# Altium schematic symbol library CUBIC_SCH.SchLib: 153 symbols (part 7 of 7)
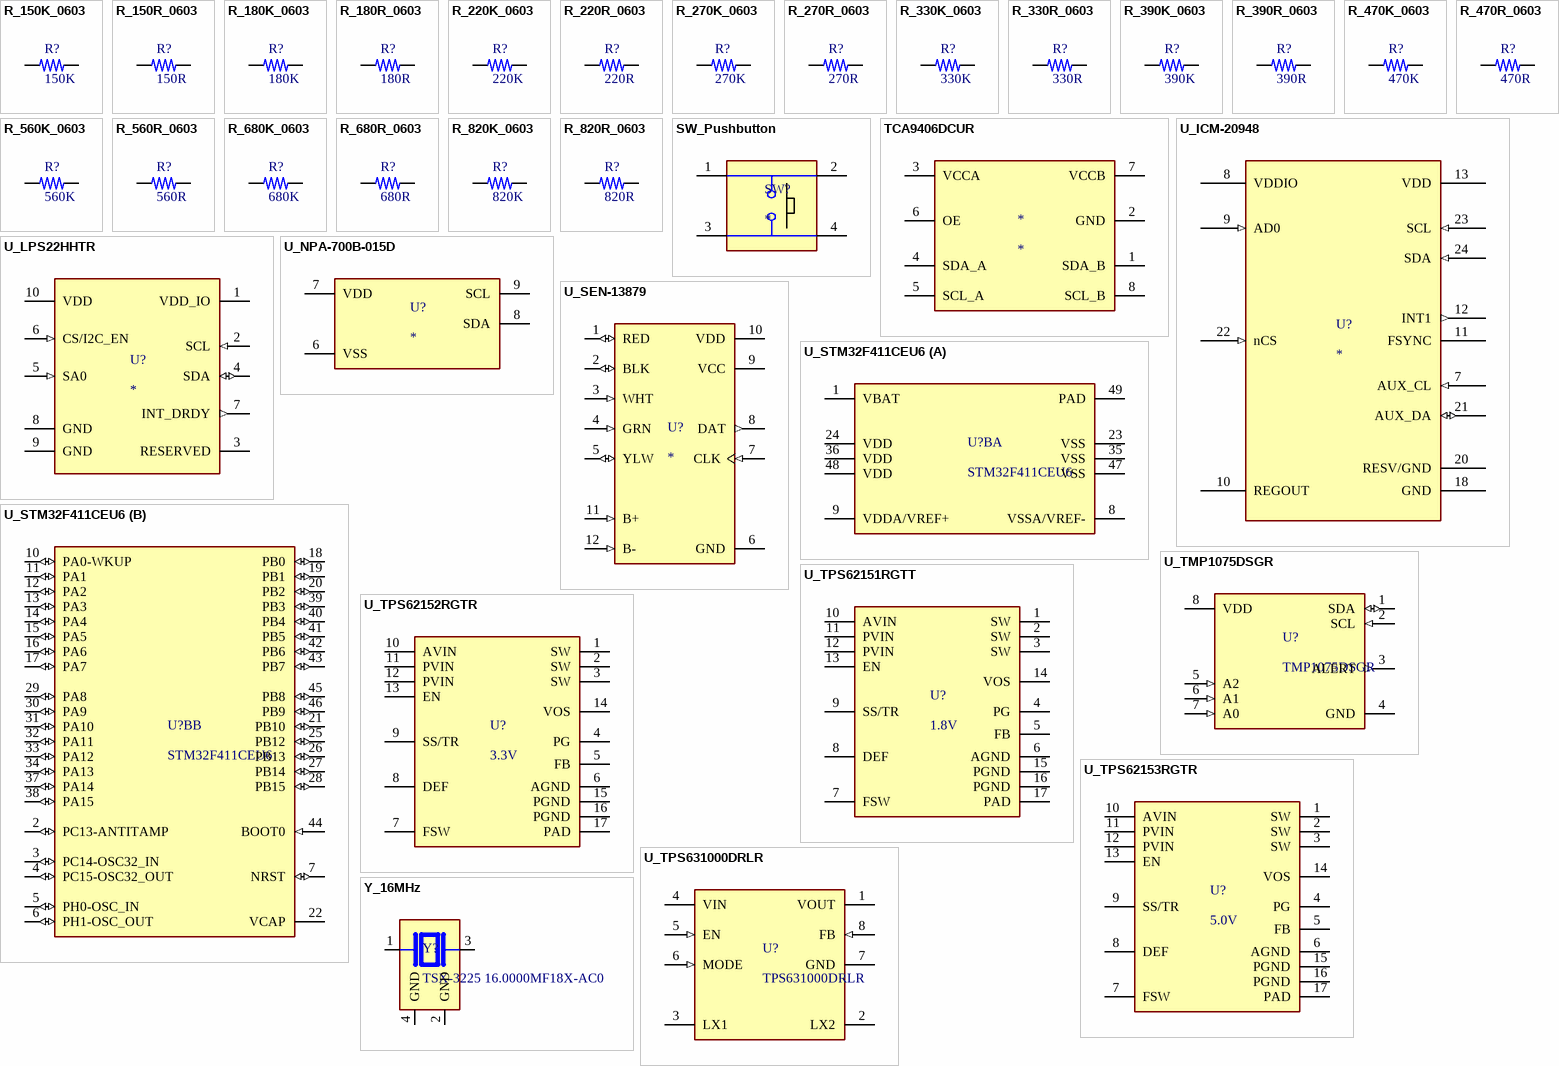
[diagram p9: symbols R_150K_0603 to Y_16MHz]

## R_470R_0603
designator R?, comment 470R
Fixed Resistor, Metal Glaze/thick Film, 0.1W, 470ohm, 75V, 1% +/-Tol, 100ppm/Cel, Surface Mount, 0603; Manufacturer: Yageo; Manufacturer Part Number: RC0603FR-07470RL; Additional Feature: LASER TRIMMABLE; Power: 100mW; Rated Temperature: 70°C; Temperature Coefficient: 100ppm/°C; Package Height: 0.45mm; Package Length: 1.6mm; Package Width: 0.8mm; Supplier: Digikey; Supplier Part Number: 311-470HRCT-ND; RoHS: Yes; Category: Chip SMD Resistors; Stock: 287694; Pricing: 1=0.1, 10=0.011, 50=0.0086, 100=0.0061, 500=0.00562, 1000=0.0051 (USD); Mounting Technology: Surface Mount; Pins: 2; Package Shape: Rectangular; Case/Package: 0603; Terminal Finish: Nickel; Min Operating Temperature: -55°C; Max Operating Temperature: 155°C; Tolerance: 1%; JESD-609 Code: e3; Resistor Type: FIXED RESISTOR; Construction: Chip; Packaging: Tape and Reel; Value: 470R; Technology: METAL GLAZE/THICK FILM; Termination: Wraparound; Working Voltage: 75V; Reach SVHC Compliant: Yes; RoHS Compliant: Yes; ComponentLink1URL: https://datasheet.ciiva.com:443/pdfs/VipMasterIC/IC/YAGO/YAGO-S-A0008145938/YAGO-S-A0008145938-1.pdf?src-supplier=IHS+Markit; ComponentLink1Description: https://datasheet.ciiva.com:443/pdfs/VipMasterIC/IC/YAGO/YAGO-S-A0008145938/YAGO-S-A0008145938-1.pdf?src-supplier=IHS+Markit; ComponentLink2URL: https://datasheet.ciiva.com/11808/0900766b80f96399-11808177.pdf?src-supplier=Rs; ComponentLink2Description: https://datasheet.ciiva.com/11808/0900766b80f96399-11808177.pdf?src-supplier=Rs; ComponentLink3URL: https://datasheet.ciiva.com/46440/1868787-46440907.pdf?src-supplier=Element14; ComponentLink3Description: https://datasheet.ciiva.com/46440/1868787-46440907.pdf?src-supplier=Element14; ComponentLink4URL: https://datasheet.ciiva.com/7660/1868787-7660793.pdf?src-supplier=Element14; ComponentLink4Description: https://datasheet.ciiva.com/7660/1868787-7660793.pdf?src-supplier=Element14; ComponentLink5URL: https://datasheet.ciiva.com/7746/1738695-7746359.pdf?src-supplier=Element14; ComponentLink5Description: https://datasheet.ciiva.com/7746/1738695-7746359.pdf?src-supplier=Element14; ComponentLink6URL: https://datasheet.ciiva.com/2454/pyu-r-int-thick-7-2454012.pdf?src-supplier=Digikey; ComponentLink6Description: https://datasheet.ciiva.com/2454/pyu-r-int-thick-7-2454012.pdf?src-supplier=Digikey; ComponentLink7URL: https://datasheet.ciiva.com/2454/pyu-r-int-thick-7-2454013.pdf?src-supplier=Digikey; ComponentLink7Description: https://datasheet.ciiva.com/2454/pyu-r-int-thick-7-2454013.pdf?src-supplier=Digikey; ComponentLink8URL: https://datasheet.ciiva.com/2454/pyu-r-int-thick-7-2454014.pdf?src-supplier=Digikey; ComponentLink8Description: https://datasheet.ciiva.com/2454/pyu-r-int-thick-7-2454014.pdf?src-supplier=Digikey; ComponentLink9URL: https://datasheet.ciiva.com/7746/1738695-7746360.pdf?src-supplier=Element14; ComponentLink9Description: https://datasheet.ciiva.com/7746/1738695-7746360.pdf?src-supplier=Element14
footprint R_0603
pins: 1, 2

## R_560K_0603
designator R?, comment 560K
Fixed Resistor, Metal Glaze/thick Film, 0.1W, 560000ohm, 75V, 1% +/-Tol, 100ppm/Cel, Surface Mount, 0603; Manufacturer: Yageo; Manufacturer Part Number: RC0603FR-07560KL; Additional Feature: LASER TRIMMABLE; Power: 100mW; Rated Temperature: 70°C; Value: 560kR; Temperature Coefficient: 100ppm/°C; Package Height: 0.45mm; Package Length: 1.6mm; Package Width: 0.8mm; Supplier: Digikey; Supplier Part Number: 311-560KHRCT-ND; RoHS: Yes; Category: Chip SMD Resistors; Stock: 175732; Pricing: 1=0.1, 10=0.012, 50=0.0096, 100=0.0071, 500=0.00612, 1000=0.0051 (USD); Mounting Technology: Surface Mount; Pins: 2; Package Shape: Rectangular; Case/Package: 0603; Terminal Finish: Nickel; Min Operating Temperature: -55°C; Max Operating Temperature: 155°C; Tolerance: 1%; JESD-609 Code: e3; Resistor Type: FIXED RESISTOR; Construction: Chip; Packaging: Tape and Reel; Technology: METAL GLAZE/THICK FILM; Termination: Wraparound; Working Voltage: 75V; Reach SVHC Compliant: Yes; RoHS Compliant: Yes; ComponentLink1URL: https://datasheet.ciiva.com:443/pdfs/VipMasterIC/IC/YAGO/YAGO-S-A0008145938/YAGO-S-A0008145938-1.pdf?src-supplier=IHS+Markit; ComponentLink1Description: https://datasheet.ciiva.com:443/pdfs/VipMasterIC/IC/YAGO/YAGO-S-A0008145938/YAGO-S-A0008145938-1.pdf?src-supplier=IHS+Markit; ComponentLink2URL: https://datasheet.ciiva.com/7746/443971-7746373.pdf?src-supplier=Element14; ComponentLink2Description: https://datasheet.ciiva.com/7746/443971-7746373.pdf?src-supplier=Element14
footprint R_0603
pins: 1, 2

## R_560R_0603
designator R?, comment 560R
Fixed Resistor, Metal Glaze/thick Film, 0.1W, 560ohm, 75V, 1% +/-Tol, 100ppm/Cel, Surface Mount, 0603; Manufacturer: Yageo; Manufacturer Part Number: RC0603FR-07560RL; Additional Feature: LASER TRIMMABLE; Power: 100mW; Rated Temperature: 70°C; Temperature Coefficient: 100ppm/°C; Package Height: 0.45mm; Package Length: 1.6mm; Package Width: 0.8mm; Supplier: Digikey; Supplier Part Number: 311-560HRCT-ND; RoHS: Yes; Category: Chip SMD Resistors; Stock: 555492; Pricing: 1=0.1, 10=0.012, 50=0.0096, 100=0.0071, 500=0.00612, 1000=0.0051 (USD); Mounting Technology: Surface Mount; Pins: 2; Package Shape: Rectangular; Case/Package: 0603; Terminal Finish: Nickel; Min Operating Temperature: -55°C; Max Operating Temperature: 155°C; Tolerance: 1%; JESD-609 Code: e3; Resistor Type: FIXED RESISTOR; Construction: Chip; Packaging: Tape and Reel; Value: 560R; Technology: METAL GLAZE/THICK FILM; Termination: Wraparound; Working Voltage: 75V; Reach SVHC Compliant: Yes; RoHS Compliant: Yes; ComponentLink1URL: https://datasheet.ciiva.com:443/pdfs/VipMasterIC/IC/YAGO/YAGO-S-A0008145938/YAGO-S-A0008145938-1.pdf?src-supplier=IHS+Markit; ComponentLink1Description: https://datasheet.ciiva.com:443/pdfs/VipMasterIC/IC/YAGO/YAGO-S-A0008145938/YAGO-S-A0008145938-1.pdf?src-supplier=IHS+Markit; ComponentLink2URL: https://datasheet.ciiva.com/11808/0900766b80f96399-11808127.pdf?src-supplier=Rs; ComponentLink2Description: https://datasheet.ciiva.com/11808/0900766b80f96399-11808127.pdf?src-supplier=Rs; ComponentLink3URL: https://datasheet.ciiva.com/2454/pyu-r-int-thick-7-2454381.pdf?src-supplier=Digikey; ComponentLink3Description: https://datasheet.ciiva.com/2454/pyu-r-int-thick-7-2454381.pdf?src-supplier=Digikey; ComponentLink4URL: https://datasheet.ciiva.com/2454/pyu-r-int-thick-7-2454382.pdf?src-supplier=Digikey; ComponentLink4Description: https://datasheet.ciiva.com/2454/pyu-r-int-thick-7-2454382.pdf?src-supplier=Digikey; ComponentLink5URL: https://datasheet.ciiva.com/2454/pyu-r-int-thick-7-2454383.pdf?src-supplier=Digikey; ComponentLink5Description: https://datasheet.ciiva.com/2454/pyu-r-int-thick-7-2454383.pdf?src-supplier=Digikey; ComponentLink6URL: https://datasheet.ciiva.com/46412/443971-46412853.pdf?src-supplier=Element14; ComponentLink6Description: https://datasheet.ciiva.com/46412/443971-46412853.pdf?src-supplier=Element14; ComponentLink7URL: https://datasheet.ciiva.com/7746/443971-7746374.pdf?src-supplier=Element14; ComponentLink7Description: https://datasheet.ciiva.com/7746/443971-7746374.pdf?src-supplier=Element14; ComponentLink8URL: https://datasheet.ciiva.com/7746/443971-7746375.pdf?src-supplier=Element14; ComponentLink8Description: https://datasheet.ciiva.com/7746/443971-7746375.pdf?src-supplier=Element14
footprint R_0603
pins: 1, 2

## R_680K_0603
designator R?, comment 680K
Fixed Resistor, Metal Glaze/thick Film, 0.1W, 680000ohm, 75V, 1% +/-Tol, 100ppm/Cel, Surface Mount, 0603; Manufacturer: Yageo; Manufacturer Part Number: RC0603FR-07680KL; Additional Feature: LASER TRIMMABLE; Power: 100mW; Rated Temperature: 70°C; Value: 680kR; Temperature Coefficient: 100ppm/°C; Package Height: 0.45mm; Package Length: 1.6mm; Package Width: 0.8mm; Supplier: Digikey; Supplier Part Number: 311-680KHRCT-ND; RoHS: Yes; Category: Chip SMD Resistors; Stock: 125480; Pricing: 1=0.1, 10=0.012, 50=0.0096, 100=0.0071, 500=0.00612, 1000=0.0051 (USD); Mounting Technology: Surface Mount; Pins: 2; Package Shape: Rectangular; Case/Package: 0603; Terminal Finish: Nickel; Min Operating Temperature: -55°C; Max Operating Temperature: 155°C; Tolerance: 1%; JESD-609 Code: e3; Resistor Type: FIXED RESISTOR; Construction: Chip; Packaging: Tape and Reel; Technology: METAL GLAZE/THICK FILM; Termination: Wraparound; Working Voltage: 75V; Reach SVHC Compliant: Yes; RoHS Compliant: Yes; ComponentLink1URL: https://datasheet.ciiva.com:443/pdfs/VipMasterIC/IC/YAGO/YAGO-S-A0008145938/YAGO-S-A0008145938-1.pdf?src-supplier=IHS+Markit; ComponentLink1Description: https://datasheet.ciiva.com:443/pdfs/VipMasterIC/IC/YAGO/YAGO-S-A0008145938/YAGO-S-A0008145938-1.pdf?src-supplier=IHS+Markit; ComponentLink2URL: https://datasheet.ciiva.com/2519/pyu-r-int-thick-7-2519198.pdf?src-supplier=Digikey; ComponentLink2Description: https://datasheet.ciiva.com/2519/pyu-r-int-thick-7-2519198.pdf?src-supplier=Digikey; ComponentLink3URL: https://datasheet.ciiva.com/2519/pyu-r-int-thick-7-2519199.pdf?src-supplier=Digikey; ComponentLink3Description: https://datasheet.ciiva.com/2519/pyu-r-int-thick-7-2519199.pdf?src-supplier=Digikey; ComponentLink4URL: https://datasheet.ciiva.com/2519/pyu-r-int-thick-7-2519200.pdf?src-supplier=Digikey; ComponentLink4Description: https://datasheet.ciiva.com/2519/pyu-r-int-thick-7-2519200.pdf?src-supplier=Digikey; ComponentLink5URL: https://datasheet.ciiva.com/15189/getdatasheetpartid-323816-15189798.pdf?src-supplier=Verical; ComponentLink5Description: https://datasheet.ciiva.com/15189/getdatasheetpartid-323816-15189798.pdf?src-supplier=Verical; ComponentLink6URL: https://datasheet.ciiva.com/46440/1868787-46440911.pdf?src-supplier=Element14; ComponentLink6Description: https://datasheet.ciiva.com/46440/1868787-46440911.pdf?src-supplier=Element14
footprint R_0603
pins: 1, 2

## R_680R_0603
designator R?, comment 680R
Fixed Resistor, Metal Glaze/thick Film, 0.1W, 680ohm, 75V, 1% +/-Tol, 100ppm/Cel, Surface Mount, 0603; Manufacturer: Yageo; Manufacturer Part Number: RC0603FR-07680RL; Additional Feature: LASER TRIMMABLE; Power: 100mW; Rated Temperature: 70°C; Temperature Coefficient: 100ppm/°C; Package Height: 0.45mm; Package Length: 1.6mm; Package Width: 0.8mm; Supplier: Digikey; Supplier Part Number: 311-680HRCT-ND; RoHS: Yes; Category: Chip SMD Resistors; Stock: 165830; Pricing: 1=0.1, 10=0.012, 50=0.0096, 100=0.0071, 500=0.00612, 1000=0.0051, 5000=0.00408, 10000=0.00306, 15000=0.00221, 25000=0.00204, 35000=0.0019 (USD); Mounting Technology: Surface Mount; Pins: 2; Package Shape: Rectangular; Case/Package: 0603; Terminal Finish: Nickel; Min Operating Temperature: -55°C; Max Operating Temperature: 155°C; Tolerance: 1%; JESD-609 Code: e3; Resistor Type: FIXED RESISTOR; Construction: Chip; Packaging: Tape and Reel; Value: 680R; Technology: METAL GLAZE/THICK FILM; Termination: Wraparound; Working Voltage: 75V; Reach SVHC Compliant: Yes; RoHS Compliant: Yes; ComponentLink1URL: https://datasheet.ciiva.com:443/pdfs/VipMasterIC/IC/YAGO/YAGO-S-A0008145938/YAGO-S-A0008145938-1.pdf?src-supplier=IHS+Markit; ComponentLink1Description: https://datasheet.ciiva.com:443/pdfs/VipMasterIC/IC/YAGO/YAGO-S-A0008145938/YAGO-S-A0008145938-1.pdf?src-supplier=IHS+Markit; ComponentLink2URL: https://datasheet.ciiva.com/2553/pyu-r-int-thick-7-2553545.pdf?src-supplier=Digikey; ComponentLink2Description: https://datasheet.ciiva.com/2553/pyu-r-int-thick-7-2553545.pdf?src-supplier=Digikey; ComponentLink3URL: https://datasheet.ciiva.com/2553/pyu-r-int-thick-7-2553546.pdf?src-supplier=Digikey; ComponentLink3Description: https://datasheet.ciiva.com/2553/pyu-r-int-thick-7-2553546.pdf?src-supplier=Digikey; ComponentLink4URL: https://datasheet.ciiva.com/2553/pyu-r-int-thick-7-2553547.pdf?src-supplier=Digikey; ComponentLink4Description: https://datasheet.ciiva.com/2553/pyu-r-int-thick-7-2553547.pdf?src-supplier=Digikey; ComponentLink5URL: https://datasheet.ciiva.com/46412/443971-46412854.pdf?src-supplier=Element14; ComponentLink5Description: https://datasheet.ciiva.com/46412/443971-46412854.pdf?src-supplier=Element14; ComponentLink6URL: https://datasheet.ciiva.com/7746/443971-7746389.pdf?src-supplier=Element14; ComponentLink6Description: https://datasheet.ciiva.com/7746/443971-7746389.pdf?src-supplier=Element14
footprint R_0603
pins: 1, 2

## R_820K_0603
designator R?, comment 820K
Fixed Resistor, Metal Glaze/thick Film, 0.1W, 820000ohm, 75V, 1% +/-Tol, 100ppm/Cel, Surface Mount, 0603; Manufacturer: Yageo; Manufacturer Part Number: RC0603FR-07820KL; Additional Feature: LASER TRIMMABLE; Power: 100mW; Rated Temperature: 70°C; Value: 820kR; Temperature Coefficient: 100ppm/°C; Package Height: 0.45mm; Package Length: 1.6mm; Package Width: 0.8mm; Supplier: Digikey; Supplier Part Number: 311-820KHRCT-ND; RoHS: Yes; Category: Chip SMD Resistors; Stock: 104746; Pricing: 1=0.1, 10=0.012, 50=0.0096, 100=0.0071, 500=0.00612, 1000=0.0051 (USD); Mounting Technology: Surface Mount; Pins: 2; Package Shape: Rectangular; Case/Package: 0603; Terminal Finish: Nickel; Min Operating Temperature: -55°C; Max Operating Temperature: 155°C; Tolerance: 1%; JESD-609 Code: e3; Resistor Type: FIXED RESISTOR; Construction: Chip; Packaging: Tape and Reel; Technology: METAL GLAZE/THICK FILM; Termination: Wraparound; Working Voltage: 75V; Reach SVHC Compliant: Yes; RoHS Compliant: Yes; ComponentLink1URL: https://datasheet.ciiva.com:443/pdfs/VipMasterIC/IC/YAGO/YAGO-S-A0008145938/YAGO-S-A0008145938-1.pdf?src-supplier=IHS+Markit; ComponentLink1Description: https://datasheet.ciiva.com:443/pdfs/VipMasterIC/IC/YAGO/YAGO-S-A0008145938/YAGO-S-A0008145938-1.pdf?src-supplier=IHS+Markit; ComponentLink2URL: http://www.farnell.com/datasheets/1868787.pdf?src-supplier=Farnell; ComponentLink2Description: http://www.farnell.com/datasheets/1868787.pdf?src-supplier=Farnell; ComponentLink3URL: http://www.mouser.com/ds/2/447/RC0603-272842.pdf?src-supplier=Mouser; ComponentLink3Description: http://www.mouser.com/ds/2/447/RC0603-272842.pdf?src-supplier=Mouser; ComponentLink4URL: http://www.farnell.com/datasheets/2167052.pdf?src-supplier=Element14; ComponentLink4Description: http://www.farnell.com/datasheets/2167052.pdf?src-supplier=Element14; ComponentLink5URL: http://www.farnell.com/datasheets/443971.pdf?src-supplier=Element14; ComponentLink5Description: http://www.farnell.com/datasheets/443971.pdf?src-supplier=Element14; ComponentLink6URL: http://www.farnell.com/datasheets/1868787.pdf?src-supplier=Element14; ComponentLink6Description: http://www.farnell.com/datasheets/1868787.pdf?src-supplier=Element14; ComponentLink7URL: http://www.farnell.com/datasheets/1868787.pdf?src-supplier=Newark; ComponentLink7Description: http://www.farnell.com/datasheets/1868787.pdf?src-supplier=Newark; ComponentLink8URL: https://datasheet.octopart.com/RC0603FR-07820KL-Yageo-datasheet-8328172.pdf?src-supplier=Newark; ComponentLink8Description: https://datasheet.octopart.com/RC0603FR-07820KL-Yageo-datasheet-8328172.pdf?src-supplier=Newark; ComponentLink9URL: http://www.farnell.com/datasheets/2167052.pdf?src-supplier=Newark; ComponentLink9Description: http://www.farnell.com/datasheets/2167052.pdf?src-supplier=Newark; ComponentLink10URL: http://www.yageo.com/documents/recent/PYu-RC_Group_51_RoHS_L_9.pdf?src-supplier=Digikey; ComponentLink10Description: http://www.yageo.com/documents/recent/PYu-RC_Group_51_RoHS_L_9.pdf?src-supplier=Digikey; ComponentLink11URL: https://datasheet.octopart.com/RC0603FR-07820KL-Yageo-datasheet-164759695.pdf?src-supplier=Future+Electronics; ComponentLink11Description: https://datasheet.octopart.com/RC0603FR-07820KL-Yageo-datasheet-164759695.pdf?src-supplier=Future+Electronics
footprint R_0603
pins: 1, 2

## R_820R_0603
designator R?, comment 820R
Fixed Resistor, Metal Glaze/thick Film, 0.1W, 820ohm, 75V, 1% +/-Tol, 100ppm/Cel, Surface Mount, 0603; Manufacturer: Yageo; Manufacturer Part Number: RC0603FR-07820RL; Additional Feature: LASER TRIMMABLE; Power: 100mW; Rated Temperature: 70°C; Temperature Coefficient: 100ppm/°C; Package Height: 0.45mm; Package Length: 1.6mm; Package Width: 0.8mm; Supplier: Digikey; Supplier Part Number: 311-820HRCT-ND; RoHS: Yes; Category: Chip SMD Resistors; Stock: 187659; Pricing: 1=0.1, 10=0.012, 50=0.0096, 100=0.0071, 500=0.00612, 1000=0.0051 (USD); Mounting Technology: Surface Mount; Pins: 2; Package Shape: Rectangular; Case/Package: 0603; Terminal Finish: Nickel; Min Operating Temperature: -55°C; Max Operating Temperature: 155°C; Tolerance: 1%; JESD-609 Code: e3; Resistor Type: FIXED RESISTOR; Construction: Chip; Packaging: Tape and Reel; Value: 820R; Technology: METAL GLAZE/THICK FILM; Termination: Wraparound; Working Voltage: 75V; Reach SVHC Compliant: Yes; RoHS Compliant: Yes; ComponentLink1URL: https://datasheet.ciiva.com:443/pdfs/VipMasterIC/IC/YAGO/YAGO-S-A0008145938/YAGO-S-A0008145938-1.pdf?src-supplier=IHS+Markit; ComponentLink1Description: https://datasheet.ciiva.com:443/pdfs/VipMasterIC/IC/YAGO/YAGO-S-A0008145938/YAGO-S-A0008145938-1.pdf?src-supplier=IHS+Markit; ComponentLink2URL: https://datasheet.ciiva.com/11809/0900766b80f96399-11809317.pdf?src-supplier=Rs; ComponentLink2Description: https://datasheet.ciiva.com/11809/0900766b80f96399-11809317.pdf?src-supplier=Rs
footprint R_0603
pins: 1, 2

## SW_Pushbutton
designator SW?
6 x 6 mm, 4.3~17 mm Actuator Height, 100~260 gf, Through Hole, SPST, Tactile Switch; Manufacturer: Same Sky; Manufacturer Part Number: TS02-66-70-BK-100-LCR-D; Supplier: Digikey; Supplier Part Number: 2223-TS02-66-70-BK-100-LCR-D-ND; RoHS: No; Stock: 1871; Pricing: 1=0.1, 10=0.093, 25=0.0872, 100=0.0788, 250=0.07328, 500=0.0692, 1000=0.06531, 3000=0.05961, 5000=0.0572 (USD)
footprint SW_Pushbutton (Tactile pushbutton switch, 4-pin, through-hole)
pins: 1, 2, 3, 4

## TCA9406DCUR
designator *
Interface Circuit, PDSO8; Manufacturer: Texas Instruments; Manufacturer Part Number: TCA9406DCUR; Package Body Material: Plastic; Channels: 1; Power Supplies: 1.8/3.3,2.5/5V; Supply Voltage1-Max: 5.5V; Supply Voltage1-Min: 2.3V; Supply Voltage1-Nom: 2.5V; Max Supply Voltage: 3.6V; Min Supply Voltage: 1.65V; Nominal Supply Voltage: 1.8V; Qualification Status: Not Qualified; Supplier: Digikey; Supplier Part Number: 296-28109-1-ND; RoHS: Yes; Category: Voltage Level Shifters; Stock: 10328; Pricing: 1=0.82, 10=0.586, 25=0.5272, 100=0.4627, 250=0.43188, 500=0.41334, 1000=0.39807 (USD); Case/Package: VSSOP; Pins: 8; Package Shape: Rectangular; Terminal Finish: Nickel; Min Operating Temperature: -40°C; Max Operating Temperature: 85°C; JESD-609 Code: e4; Interface IC Type: INTERFACE CIRCUIT; JESD-30 Code: R-PDSO-G8; Moisture Sensitivity Level: 1; Package Style: SMALL OUTLINE, VERY THIN PROFILE, SHRINK PITCHMeter; Peak Reflow Temperature (Cel): 260°C; Surface Mount: Yes; Terminal Form: Gull Wing; Terminal Position: DUAL; Length: 2.3mm; Width: 2mm; Height - Seated (Max): 0.9mm; Terminal Pitch: 0.5mm; Temperature Grade: INDUSTRIAL; Reach SVHC Compliant: Yes; RoHS Compliant: Yes; ComponentLink1URL: https://www.ti.com:443/lit/ds/symlink/tca9406.pdf?src-supplier=IHS+Markit; ComponentLink1Description: https://www.ti.com:443/lit/ds/symlink/tca9406.pdf?src-supplier=IHS+Markit; ComponentLink2URL: https://datasheet.ciiva.com/3149/tca9406-3149521.pdf?src-supplier=Avnet; ComponentLink2Description: https://datasheet.ciiva.com/3149/tca9406-3149521.pdf?src-supplier=Avnet; ComponentLink3URL: https://datasheet.ciiva.com/1899/tca9406-1899424.pdf?src-supplier=Digikey; ComponentLink3Description: https://datasheet.ciiva.com/1899/tca9406-1899424.pdf?src-supplier=Digikey; ComponentLink4URL: https://datasheet.ciiva.com/15134/getdatasheetpartid-312405-15134730.pdf?src-supplier=Verical; ComponentLink4Description: https://datasheet.ciiva.com/15134/getdatasheetpartid-312405-15134730.pdf?src-supplier=Verical; ComponentLink5URL: https://datasheet.ciiva.com/1899/tca9406-1899423.pdf?src-supplier=Digikey; ComponentLink5Description: https://datasheet.ciiva.com/1899/tca9406-1899423.pdf?src-supplier=Digikey; ComponentLink6URL: https://datasheet.ciiva.com/1899/tca9406-1899425.pdf?src-supplier=Digikey; ComponentLink6Description: https://datasheet.ciiva.com/1899/tca9406-1899425.pdf?src-supplier=Digikey; ComponentLink7URL: https://datasheet.ciiva.com/46391/1817453-46391351.pdf?src-supplier=Element14; ComponentLink7Description: https://datasheet.ciiva.com/46391/1817453-46391351.pdf?src-supplier=Element14; ComponentLink8URL: https://datasheet.ciiva.com/1503/1882429-1503921.pdf?src-supplier=Element14; ComponentLink8Description: https://datasheet.ciiva.com/1503/1882429-1503921.pdf?src-supplier=Element14
footprint U_TCA9406DCUR
pins: 1 SDA_B, 2 GND, 3 VCCA, 4 SDA_A, 5 SCL_A, 6 OE, 7 VCCB, 8 SCL_B

## U_ICM-20948
designator U?
[Orientation Sensor] 9-Axis MotionTracking Device Digital Output 1.8V 16-Pin QFN EP; Manufacturer: TDK; Manufacturer Part Number: ICM-20948; Supplier: Digikey; Supplier Part Number: 1428-1123-1-ND; RoHS: Yes; Category: Linear ICs; Stock: 12721; Pricing: 1=6.25, 10=5.34, 50=5.34, 100=5.13, 1000=4.5, 10000=4.27 (USD); ComponentLink1URL: http://www.farnell.com/datasheets/2632662.pdf?src-supplier=Farnell; ComponentLink1Description: http://www.farnell.com/datasheets/2632662.pdf?src-supplier=Farnell; ComponentLink2URL: https://www.invensense.com/wp-content/uploads/2016/06/App-Note-eMD-20x48-User-Guide.pdf?src-supplier=Avnet; ComponentLink2Description: https://www.invensense.com/wp-content/uploads/2016/06/App-Note-eMD-20x48-User-Guide.pdf?src-supplier=Avnet; ComponentLink3URL: https://www.invensense.com/wp-content/uploads/2016/06/App-Note-eMD-20x48-User-Guide.pdf?src-supplier=Digikey; ComponentLink3Description: https://www.invensense.com/wp-content/uploads/2016/06/App-Note-eMD-20x48-User-Guide.pdf?src-supplier=Digikey; ComponentLink4URL: http://www.farnell.com/datasheets/2632662.pdf?src-supplier=Newark; ComponentLink4Description: http://www.farnell.com/datasheets/2632662.pdf?src-supplier=Newark; ComponentLink5URL: http://www.farnell.com/datasheets/2632662.pdf?src-supplier=Element14; ComponentLink5Description: http://www.farnell.com/datasheets/2632662.pdf?src-supplier=Element14; ComponentLink6URL: https://www.invensense.com/wp-content/uploads/2016/06/App-Note-eMD-20x48-User-Guide.pdf?src-supplier=Component+Distributors+Inc.; ComponentLink6Description: https://www.invensense.com/wp-content/uploads/2016/06/App-Note-eMD-20x48-User-Guide.pdf?src-supplier=Component+Distributors+Inc.
footprint U_ICM-20948
pins: 7 AUX_CL (in), 8 VDDIO (power), 9 AD0 (in), 10 REGOUT, 11 FSYNC, 12 INT1 (out), 13 VDD (power), 18 GND (power), 20 RESV/GND (power), 21 AUX_DA (io), 22 nCS (in), 23 SCL (in), 24 SDA (in)

## U_LPS22HHTR
designator U?
[Abs. Pressure Sensor] Pressure Sensor; Manufacturer: STMicroelectronics; Manufacturer Part Number: LPS22HHTR; Sensor Type: PRESSURE SENSOR,PEIZORESISTIVE; Supplier: Digikey; Supplier Part Number: 497-18182-1-ND; RoHS: Yes; Category: Pressure Sensors; Stock: 21452; Pricing: 1=2.67, 5=2.314, 10=2.185, 25=2.0356, 50=1.9362, 100=1.8475, 500=1.6754, 1000=1.61379 (USD); Reach SVHC Compliant: Yes; RoHS Compliant: Yes; ComponentLink1URL: https://datasheet.ciiva.com:443/pdfs/VipMasterIC/IC/SGST/SGST-S-A0007383744/SGST-S-A0007383744-1.pdf?src-supplier=IHS+Markit; ComponentLink1Description: https://datasheet.ciiva.com:443/pdfs/VipMasterIC/IC/SGST/SGST-S-A0007383744/SGST-S-A0007383744-1.pdf?src-supplier=IHS+Markit; ComponentLink2URL: http://www.farnell.com/datasheets/2710908.pdf?src-supplier=Farnell; ComponentLink2Description: http://www.farnell.com/datasheets/2710908.pdf?src-supplier=Farnell; ComponentLink3URL: http://www.farnell.com/datasheets/2710908.pdf?src-supplier=Newark; ComponentLink3Description: http://www.farnell.com/datasheets/2710908.pdf?src-supplier=Newark; ComponentLink4URL: https://www.st.com/resource/en/datasheet/lps22hh.pdf?src-supplier=Digikey; ComponentLink4Description: https://www.st.com/resource/en/datasheet/lps22hh.pdf?src-supplier=Digikey; ComponentLink5URL: https://www.st.com/resource/en/data_brief/lps22hh.pdf?src-supplier=Digikey; ComponentLink5Description: https://www.st.com/resource/en/data_brief/lps22hh.pdf?src-supplier=Digikey
footprint U_LPS22HH
pins: 1 VDD_IO (power), 2 SCL (in), 3 RESERVED, 4 SDA (io), 5 SA0 (in), 6 CS/I2C_EN (in), 7 INT_DRDY (out), 8 GND (power), 9 GND (power), 10 VDD (power)

## U_NPA-700B-015D
designator U?
[Diff. Pressure Sensor] Differential, 1.5%, 100-166mV, Rectangular, Surface Mount; Manufacturer: Amphenol; Manufacturer Part Number: NPA-700B-015D; Output Type: DIGITAL VOLTAGE; Linearity: 0.25%; Number of Bits: 14; Output Interface Type: I2C; Port Type: BARBED; Sensor Type: PRESSURE SENSOR,PEIZORESISTIVE; Max Supply Voltage: 5.25V; Min Supply Voltage: 4.75V; Supplier: Digikey; Supplier Part Number: 45-NPA-700B-015DCT-ND; RoHS: Yes; Category: Pressure Sensors; Stock: 3180; Pricing: 1=21.81, 5=19.472, 10=18.637, 25=17.6648, 50=17.0176 (USD); Mounting Technology: Surface Mount; Package Shape/Style: Rectangular; Terminal Finish: Gold; Min Operating Temperature: -40°C; Max Operating Temperature: 125°C; JESD-609 Code: e4; Pressure Type: Differential; Termination: Solder; RoHS Compliant: Yes; ComponentLink1URL: https://datasheet.ciiva.com:443/pdfs/VipMasterIC/IC/AMPH/AMPH-S-A0004678497/AMPH-S-A0004678497-1.pdf?src-supplier=IHS+Markit; ComponentLink1Description: https://datasheet.ciiva.com:443/pdfs/VipMasterIC/IC/AMPH/AMPH-S-A0004678497/AMPH-S-A0004678497-1.pdf?src-supplier=IHS+Markit; ComponentLink2URL: https://datasheet.ciiva.com/29839/npa-series-an-29839054.pdf?src-supplier=Digikey; ComponentLink2Description: https://datasheet.ciiva.com/29839/npa-series-an-29839054.pdf?src-supplier=Digikey; ComponentLink3URL: https://datasheet.ciiva.com/29839/npa-series-an-29839055.pdf?src-supplier=Digikey; ComponentLink3Description: https://datasheet.ciiva.com/29839/npa-series-an-29839055.pdf?src-supplier=Digikey; ComponentLink4URL: https://datasheet.ciiva.com/46653/70237966-46653207.pdf?src-supplier=Allied+Electronics; ComponentLink4Description: https://datasheet.ciiva.com/46653/70237966-46653207.pdf?src-supplier=Allied+Electronics
footprint U_NPA-700B-10WD (SOIC, 14-Leads, Body 11.36x7.52mm, Pitch 1.27mm, IPC Medium Density)
pins: 6 VSS, 7 VDD, 8 SDA, 9 SCL

## U_SEN-13879
designator U?
[Amplifier] Load Cell Amp Hx711; MP: SEN-13879; Package: None; Price: None; Availability: Unavailable; Value: *
footprint U_SEN-13879
pins: 1 RED (io), 2 BLK (io), 3 WHT (in), 4 GRN (in), 5 YLW (io), 6 GND (power), 7 CLK (in), 8 DAT (out), 9 VCC (power), 10 VDD (power), 11 B+ (in), 12 B- (in)

## U_STM32F411CEU6
designator U?B, comment STM32F411CEU6
[MCU] RISC Microcontroller, 32-Bit, FLASH, CORTEX-M4 CPU, 100MHz, CMOS; Manufacturer: STMicroelectronics; Clock Frequency: 26MHz; Number of I/O Lines: 36; Max Supply Voltage: 3.6V; Min Supply Voltage: 1.7V; Nominal Supply Voltage: 3.3V; Peripherals: POR,DMA; Interface: I2C,SPI,USB,I2S,IrDA,USART,LIN; Supplier: Avnet; Supplier Part Number: STM32F411CEU6; Manufacturer Part Number: STM32F411CEU6; RoHS: Yes; Category: Microcontrollers; Stock: 32760; Pricing: 260=3.54143 (USD); Case/Package: HVQCCN; Pins: 48; Package Shape: Square; Min Operating Temperature: -40°C; Max Operating Temperature: 85°C; JESD-30 Code: S-XQCC-N48; Surface Mount: Yes; Technology: CMOS; Terminal Form: No Lead; Terminal Position: QUAD; Length: 7mm; Width: 7mm; Height - Seated (Max): 0.6mm; Terminal Pitch: 0.5mm; Temperature Grade: INDUSTRIAL; Reach SVHC Compliant: Yes; RoHS Compliant: Yes; ComponentLink1URL: https://datasheet.ciiva.com:443/pdfs/VipMasterIC/IC/SGST/SGST-S-A0004145997/SGST-S-A0004145997-1.pdf?src-supplier=IHS+Markit; ComponentLink1Description: https://datasheet.ciiva.com:443/pdfs/VipMasterIC/IC/SGST/SGST-S-A0004145997/SGST-S-A0004145997-1.pdf?src-supplier=IHS+Markit; ComponentLink2URL: http://www.farnell.com/datasheets/1869644.pdf?src-supplier=Farnell; ComponentLink2Description: http://www.farnell.com/datasheets/1869644.pdf?src-supplier=Farnell; ComponentLink3URL: http://www.mouser.com/ds/2/389/stm32f411ce-956237.pdf?src-supplier=Mouser; ComponentLink3Description: http://www.mouser.com/ds/2/389/stm32f411ce-956237.pdf?src-supplier=Mouser; ComponentLink4URL: http://www.st.com/content/ccc/resource/technical/document/datasheet/b3/a5/46/3b/b4/e5/4c/85/DM00115249.pdf/files/DM00115249.pdf/jcr:content/translations/en.DM00115249.pdf?src-supplier=Digikey; ComponentLink4Description: http://www.st.com/content/ccc/resource/technical/document/datasheet/b3/a5/46/3b/b4/e5/4c/85/DM00115249.pdf/files/DM00115249.pdf/jcr:content/translations/en.DM00115249.pdf?src-supplier=Digikey; ComponentLink5URL: https://datasheet.octopart.com/STM32F411CEU6-STMicroelectronics-datasheet-114750309.pdf?src-supplier=Newark; ComponentLink5Description: https://datasheet.octopart.com/STM32F411CEU6-STMicroelectronics-datasheet-114750309.pdf?src-supplier=Newark; ComponentLink6URL: https://datasheet.octopart.com/STM32F411CEU6-STMicroelectronics-datasheet-41919523.pdf?src-supplier=Element14; ComponentLink6Description: https://datasheet.octopart.com/STM32F411CEU6-STMicroelectronics-datasheet-41919523.pdf?src-supplier=Element14; ComponentLink7URL: http://www.st.com/st-web-ui/static/active/en/resource/technical/document/datasheet/DM00115249.pdf?src-supplier=Avnet; ComponentLink7Description: http://www.st.com/st-web-ui/static/active/en/resource/technical/document/datasheet/DM00115249.pdf?src-supplier=Avnet; ComponentLink8URL: https://datasheet.octopart.com/STM32F411CEU6-STMicroelectronics-datasheet-82511007.pdf?src-supplier=SHENGYU+ELECTRONICS; ComponentLink8Description: https://datasheet.octopart.com/STM32F411CEU6-STMicroelectronics-datasheet-82511007.pdf?src-supplier=SHENGYU+ELECTRONICS; ComponentLink9Description: JLCPCB Part Link; ComponentLink9URL: https://jlcpcb.com/partdetail/Stmicroelectronics-STM32F411CEU6/C60420
footprint U_STM32F411CEU6 (48-UFQFPN package, including ground pad)
part A pins: 1 VBAT (power), 8 VSSA/VREF- (power), 9 VDDA/VREF+ (power), 23 VSS (power), 24 VDD (power), 35 VSS (power), 36 VDD (power), 47 VSS (power), 48 VDD (power), 49 PAD (power)
part B pins: 2 PC13-ANTITAMP (io), 3 PC14-OSC32_IN (io), 4 PC15-OSC32_OUT (io), 5 PH0-OSC_IN (io), 6 PH1-OSC_OUT (io), 7 NRST (io), 10 PA0-WKUP (io), 11 PA1 (io), 12 PA2 (io), 13 PA3 (io), 14 PA4 (io), 15 PA5 (io), 16 PA6 (io), 17 PA7 (io), 18 PB0 (io), 19 PB1 (io), 20 PB2 (io), 21 PB10 (io), 22 VCAP, 25 PB12 (io), 26 PB13 (io), 27 PB14 (io), 28 PB15 (io), 29 PA8 (io), 30 PA9 (io), 31 PA10 (io), 32 PA11 (io), 33 PA12 (io), 34 PA13 (io), 37 PA14 (io), 38 PA15 (io), 39 PB3 (io), 40 PB4 (io), 41 PB5 (io), 42 PB6 (io), 43 PB7 (io), 44 BOOT0 (in), 45 PB8 (io), 46 PB9 (io)

## U_TMP1075DSGR
designator U?, comment TMP1075DSGR
[Temp. Sensor] Serial Switch/Digital Sensor, 12 Bit(s), 2Cel, Square, Surface Mount; Manufacturer: Texas Instruments; Supplier: Digikey; Supplier Part Number: 296-TMP1075DSGRCT-ND; Manufacturer Part Number: TMP1075DSGR; RoHS: Yes; Category: Integrated Circuits (ICs); Stock: 27616; Pricing: 1=0.59, 5=0.492, 10=0.458, 25=0.4152, 50=0.3858, 100=0.3585, 500=0.30232, 1000=0.28095, 3000=0.25014, 6000=0.23248, 9000=0.22274, 15000=0.21104, 21000=0.20368, 30000=0.19616 (USD); ComponentLink1URL: https://www.ti.com:443/lit/ds/symlink/tmp1075.pdf?src-supplier=IHS+Markit; ComponentLink1Description: https://www.ti.com:443/lit/ds/symlink/tmp1075.pdf?src-supplier=IHS+Markit; ComponentLink2URL: http://www.ti.com/general/docs/suppproductinfo.tsp?distId=10&amp;gotoUrl=http%3A%2F%2Fwww.ti.com%2Flit%2Fgpn%2Ftmp1075&src-supplier=Digikey; ComponentLink2Description: http://www.ti.com/general/docs/suppproductinfo.tsp?distId=10&amp;gotoUrl=http%3A%2F%2Fwww.ti.com%2Flit%2Fgpn%2Ftmp1075&src-supplier=Digikey; ComponentLink3Description: JLCPCB Part Link; ComponentLink3URL: https://jlcpcb.com/partdetail/TexasInstruments-TMP1075DSGR/C2870250
footprint U_TMP1075DSGR (SON, 8-Leads, Body 2.00x2.00mm, Pitch 0.50mm, Thermal Pad 1.60x0.69mm, IPC Medium Density)
pins: 1 SDA (io), 2 SCL (in), 3 ALERT (out), 4 GND (power), 5 A2 (in), 6 A1 (in), 7 A0 (in), 8 VDD (power)

## U_TPS62151RGTT
designator U?, comment 1.8V
[PMIC] Switching Regulator, Current/voltage-mode, 1A, 2500kHz Switching Freq-Max, PQCC16; Manufacturer: Texas Instruments; Manufacturer Part Number: TPS62151RGTT; Package Body Material: Plastic; Control Technique: PULSE WIDTH MODULATION; Max Supply Voltage: 17V; Min Input Voltage: 3V; Nominal Supply Voltage: 12V; Channels: 1; Package Equivalence Code: LCC16,.12SQ,20; Switcher Configuration: BUCK; Frequency: 2.5MHz; Qualification Status: Not Qualified; Supplier: Digikey; Supplier Part Number: 296-30008-1-ND; RoHS: Yes; Category: Voltage Regulators - Switching; Stock: 405; Pricing: 1=1.98, 10=1.457, 25=1.3272, 100=1.1845 (USD); Case/Package: HVQCCN; Pins: 16; Package Shape: Square; Terminal Finish: Nickel; Min Operating Temperature: -40°C; Max Operating Temperature: 85°C; JESD-609 Code: e4; Throw Configuration: SWITCHING REGULATOR; Control Mode: CURRENT/VOLTAGE-MODE; JESD-30 Code: S-PQCC-N16; Moisture Sensitivity Level: 2; Max Output current: 1A; Nominal Output Voltage: 1.8V; Package Style: CHIP CARRIER, HEAT SINK/SLUG, VERY THIN PROFILEMeter; Peak Reflow Temperature (Cel): 260°C; Surface Mount: Yes; Terminal Form: No Lead; Terminal Position: QUAD; Length: 3mm; Width: 3mm; Height - Seated (Max): 1mm; Terminal Pitch: 0.5mm; Temperature Grade: INDUSTRIAL; Reach SVHC Compliant: Yes; RoHS Compliant: Yes; ComponentLink1URL: https://www.ti.com:443/lit/ds/symlink/tps62150.pdf?src-supplier=IHS+Markit; ComponentLink1Description: https://www.ti.com:443/lit/ds/symlink/tps62150.pdf?src-supplier=IHS+Markit; ComponentLink2URL: https://datasheet.ciiva.com/2026/tps62151-2026160.pdf?src-supplier=Digikey; ComponentLink2Description: https://datasheet.ciiva.com/2026/tps62151-2026160.pdf?src-supplier=Digikey; ComponentLink3URL: https://datasheet.ciiva.com/2026/tps62151-2026161.pdf?src-supplier=Digikey; ComponentLink3Description: https://datasheet.ciiva.com/2026/tps62151-2026161.pdf?src-supplier=Digikey; ComponentLink4URL: https://datasheet.ciiva.com/14377/tps62150-14377607.pdf?src-supplier=Avnet; ComponentLink4Description: https://datasheet.ciiva.com/14377/tps62150-14377607.pdf?src-supplier=Avnet
footprint U_TPS6215X (QFN, 16-Leads, Body 3.00x3.00mm, Pitch 0.50mm, Thermal Pad 1.80x1.80mm, IPC Medium Density)
pins: 1 SW, 2 SW, 3 SW, 4 PG, 5 FB, 6 AGND, 7 FSW, 8 DEF, 9 SS/TR, 10 AVIN, 11 PVIN, 12 PVIN, 13 EN, 14 VOS, 15 PGND, 16 PGND, 17 PAD

## U_TPS62152RGTR
designator U?, comment 3.3V
[PMIC] Switching Regulator, Current/voltage-mode, 1A, 2500kHz Switching Freq-Max, PQCC16; Manufacturer: Texas Instruments; Manufacturer Part Number: TPS62152RGTR; Package Body Material: Plastic; Control Technique: PULSE WIDTH MODULATION; Max Supply Voltage: 17V; Min Input Voltage: 3V; Nominal Supply Voltage: 12V; Channels: 1; Package Equivalence Code: LCC16,.12SQ,20; Switcher Configuration: BUCK; Frequency: 2.5MHz; Qualification Status: Not Qualified; Supplier: Digikey; Supplier Part Number: 296-43621-1-ND; RoHS: Yes; Category: Voltage Regulators - Switching; Stock: 6225; Pricing: 1=1.42, 10=1.036, 25=0.9392, 100=0.833, 250=0.7824, 500=0.75186, 1000=0.72675 (USD); Case/Package: HVQCCN; Pins: 16; Package Shape: Square; Terminal Finish: Nickel; Min Operating Temperature: -40°C; Max Operating Temperature: 85°C; JESD-609 Code: e4; Throw Configuration: SWITCHING REGULATOR; Control Mode: CURRENT/VOLTAGE-MODE; JESD-30 Code: S-PQCC-N16; Moisture Sensitivity Level: 2; Max Output current: 1A; Nominal Output Voltage: 3.3V; Package Style: CHIP CARRIER, HEAT SINK/SLUG, VERY THIN PROFILEMeter; Peak Reflow Temperature (Cel): 260°C; Surface Mount: Yes; Terminal Form: No Lead; Terminal Position: QUAD; Length: 3mm; Width: 3mm; Height - Seated (Max): 1mm; Terminal Pitch: 0.5mm; Temperature Grade: INDUSTRIAL; Reach SVHC Compliant: Yes; RoHS Compliant: Yes; ComponentLink1URL: https://www.ti.com:443/lit/ds/symlink/tps62150.pdf?src-supplier=IHS+Markit; ComponentLink1Description: https://www.ti.com:443/lit/ds/symlink/tps62150.pdf?src-supplier=IHS+Markit; ComponentLink2URL: https://datasheet.ciiva.com/2034/tps62151-2034789.pdf?src-supplier=Digikey; ComponentLink2Description: https://datasheet.ciiva.com/2034/tps62151-2034789.pdf?src-supplier=Digikey; ComponentLink3URL: https://datasheet.ciiva.com/14377/tps62150-14377125.pdf?src-supplier=Avnet; ComponentLink3Description: https://datasheet.ciiva.com/14377/tps62150-14377125.pdf?src-supplier=Avnet
footprint U_TPS6215X (QFN, 16-Leads, Body 3.00x3.00mm, Pitch 0.50mm, Thermal Pad 1.80x1.80mm, IPC Medium Density)
pins: 1 SW, 2 SW, 3 SW, 4 PG, 5 FB, 6 AGND, 7 FSW, 8 DEF, 9 SS/TR, 10 AVIN, 11 PVIN, 12 PVIN, 13 EN, 14 VOS, 15 PGND, 16 PGND, 17 PAD

## U_TPS62153RGTR
designator U?, comment 5.0V
[PMIC] Switching Regulator, Current/voltage-mode, 1A, 2500kHz Switching Freq-Max, PQCC16; Manufacturer: Texas Instruments; Manufacturer Part Number: TPS62153RGTR; Package Body Material: Plastic; Control Technique: PULSE WIDTH MODULATION; Max Supply Voltage: 17V; Min Input Voltage: 3V; Nominal Supply Voltage: 12V; Channels: 1; Nominal Output Voltage: 5V; Package Equivalence Code: LCC16,.12SQ,20; Switcher Configuration: BUCK; Frequency: 2.5MHz; Qualification Status: Not Qualified; Supplier: Digikey; Supplier Part Number: 296-44364-1-ND; RoHS: Yes; Category: Voltage Regulators - Switching; Stock: 6376; Pricing: 1=1.42, 10=1.036, 25=0.9392, 100=0.833, 250=0.7824, 500=0.75186, 1000=0.72675, 3000=0.69573, 6000=0.68054, 9000=0.67294, 15000=0.66451 (USD); Case/Package: HVQCCN; Pins: 16; Package Shape: Square; Terminal Finish: Nickel; Min Operating Temperature: -40°C; Max Operating Temperature: 85°C; JESD-609 Code: e4; Throw Configuration: SWITCHING REGULATOR; Control Mode: CURRENT/VOLTAGE-MODE; JESD-30 Code: S-PQCC-N16; Moisture Sensitivity Level: 2; Max Output current: 1A; Package Style: CHIP CARRIER, HEAT SINK/SLUG, VERY THIN PROFILEMeter; Peak Reflow Temperature (Cel): 260°C; Surface Mount: Yes; Terminal Form: No Lead; Terminal Position: QUAD; Length: 3mm; Width: 3mm; Height - Seated (Max): 1mm; Terminal Pitch: 0.5mm; Temperature Grade: INDUSTRIAL; Reach SVHC Compliant: Yes; RoHS Compliant: Yes; ComponentLink1URL: https://www.ti.com:443/lit/ds/symlink/tps62150.pdf?src-supplier=IHS+Markit; ComponentLink1Description: https://www.ti.com:443/lit/ds/symlink/tps62150.pdf?src-supplier=IHS+Markit; ComponentLink2URL: https://datasheet.ciiva.com/2034/tps62151-2034790.pdf?src-supplier=Digikey; ComponentLink2Description: https://datasheet.ciiva.com/2034/tps62151-2034790.pdf?src-supplier=Digikey; ComponentLink3URL: https://datasheet.ciiva.com/14377/tps62150-14377013.pdf?src-supplier=Avnet; ComponentLink3Description: https://datasheet.ciiva.com/14377/tps62150-14377013.pdf?src-supplier=Avnet
footprint U_TPS6215X (QFN, 16-Leads, Body 3.00x3.00mm, Pitch 0.50mm, Thermal Pad 1.80x1.80mm, IPC Medium Density)
pins: 1 SW, 2 SW, 3 SW, 4 PG, 5 FB, 6 AGND, 7 FSW, 8 DEF, 9 SS/TR, 10 AVIN, 11 PVIN, 12 PVIN, 13 EN, 14 VOS, 15 PGND, 16 PGND, 17 PAD

## U_TPS631000DRLR
designator U?, comment TPS631000DRLR
[PMIC] 1.5-A output current, high-power-density buck-boost converter 8-SOT-5X3 -40 to 125; Manufacturer: Texas Instruments; Supplier: Digikey; Supplier Part Number: 296-TPS631000DRLRCT-ND; Manufacturer Part Number: TPS631000DRLR; RoHS: No; Category: Integrated Circuits (ICs); Stock: 2932; Pricing: 1=1.42, 10=1.036, 25=0.9392, 100=0.833, 250=0.7824, 500=0.75186, 1000=0.72675, 4000=0.68906, 8000=0.67506, 12000=0.66805 (USD); ComponentLink1Description: JLCPCB Part Link; ComponentLink1URL: https://jlcpcb.com/partdetail/TEXASINSTRUMENTS-TPS631000DRLR/C5219190
footprint U_TPS631000DRLR
pins: 1 VOUT (power), 2 LX2, 3 LX1, 4 VIN (power), 5 EN (in), 6 MODE (in), 7 GND (power), 8 FB (in)

## Y_16MHz
designator Y?, comment TSX-3225 16.0000MF18X-AC0
Parallel - Fundamental Quartz Crystal, 16MHz Nom; Manufacturer: Epson; Additional Feature: TAPE AND REEL; Aging: 1 PPM/FIRST YEAR; Drive Level: 1uW; Frequency Stability: 0.0018%; Frequency Tolerance: 10ppm; Load Capacitance: 9pF; Operating Frequency-Nom: 160; ESR: 60R; Supplier: Digikey; Supplier Part Number: SER4070CT-ND; Manufacturer Part Number: TSX-3225 16.0000MF18X-AC0; RoHS: Yes; Category: Crystals; Stock: 48562; Pricing: 1=0.39, 10=0.342, 50=0.3104, 100=0.2976, 500=0.26974 (USD); Mounting Technology: Surface Mount; Terminal Finish: Nickel; Min Operating Temperature: -40°C; Max Operating Temperature: 85°C; JESD-609 Code: e4; Crystal/Resonator Type: PARALLEL - FUNDAMENTAL; Reach SVHC Compliant: Yes; RoHS Compliant: Yes; ComponentLink1URL: https://datasheet.ciiva.com:443/pdfs/VipMasterIC/IC/SEIK/SEIKS02827/SEIKS02827-1.pdf?src-supplier=IHS+Markit; ComponentLink1Description: https://datasheet.ciiva.com:443/pdfs/VipMasterIC/IC/SEIK/SEIKS02827/SEIKS02827-1.pdf?src-supplier=IHS+Markit; ComponentLink2URL: https://www.eea.epson.com/wp-content/uploads/2016/11/November-2016-PCS-MASTER-BOOK.pdf?src-supplier=Verical; ComponentLink2Description: https://www.eea.epson.com/wp-content/uploads/2016/11/November-2016-PCS-MASTER-BOOK.pdf?src-supplier=Verical; ComponentLink3URL: https://www5.epsondevice.com/en/information/support/pdf/june_2018_psc_masterbook.pdf?src-supplier=Digikey; ComponentLink3Description: https://www5.epsondevice.com/en/information/support/pdf/june_2018_psc_masterbook.pdf?src-supplier=Digikey; ComponentLink4URL: https://datasheet.octopart.com/TSX-3225-16.0000MF18X-AC0-Epson-datasheet-61114919.pdf?src-supplier=Future+Electronics; ComponentLink4Description: https://datasheet.octopart.com/TSX-3225-16.0000MF18X-AC0-Epson-datasheet-61114919.pdf?src-supplier=Future+Electronics; ComponentLink5URL: https://www.eea.epson.com/wp-content/uploads/2016/11/November-2016-PCS-MASTER-BOOK.pdf?src-supplier=Mouser; ComponentLink5Description: https://www.eea.epson.com/wp-content/uploads/2016/11/November-2016-PCS-MASTER-BOOK.pdf?src-supplier=Mouser; ComponentLink6URL: https://datasheet.octopart.com/TSX-3225-16.0000MF18X-AC0-Epson-datasheet-140567378.pdf?src-supplier=Arrow.cn; ComponentLink6Description: https://datasheet.octopart.com/TSX-3225-16.0000MF18X-AC0-Epson-datasheet-140567378.pdf?src-supplier=Arrow.cn
footprint Y_TSX-3225_16.0000MF18X-AC0
pins: 1, 2 GND (power), 3 2, 4 GND (power)